# Altium footprint library 贴片按键.PcbLib: 1 footprints
Each footprint in its own frame and in the unit in brackets; x right, y up, seen from the top. Pads: shape width x height; smd on the part's side, far side on the other; paste and mask are expansions set on the pad; w line width, h text height; cw(c..) or ccw(c..) is an arc to the next point about the centre after c.
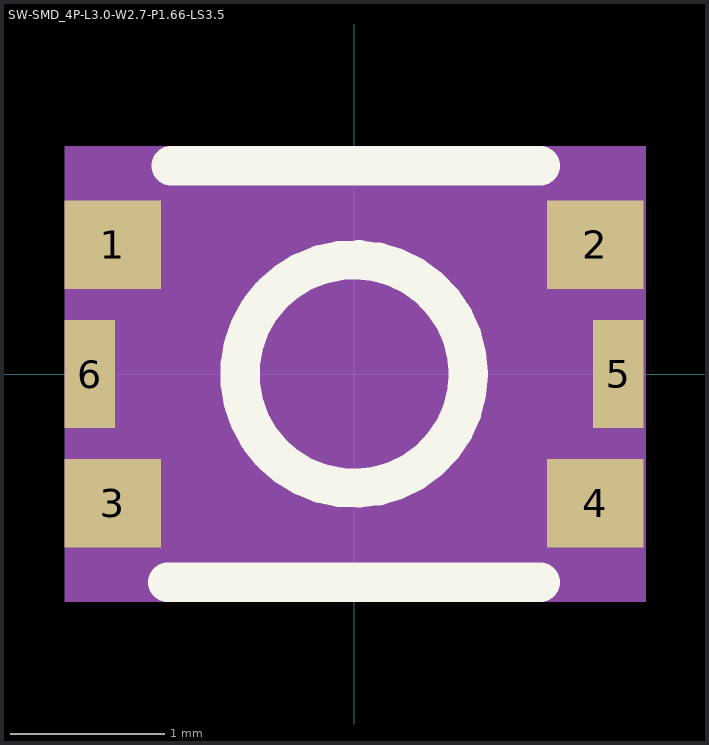
[diagram p0: the footprint, top view; thin cyan lines are the x and y axes]

## SW-SMD_4P-L3.0-W2.7-P1.66-LS3.5 [mm]
pads (6):
  rect 0.625x0.575 smd: 1(-1.562,0.837) 2(1.562,0.837) 3(-1.562,-0.837) 4(1.562,-0.837)
  rect 0.325x0.7 smd: 5(1.712,0) 6(-1.712,0)
Top Overlay:
  circle w0.254: c0,0 r0.741
  lines w0.254: -1.207,-1.35 1.207,-1.35 ; -1.185,1.35 1.207,1.35
Mechanical 4:
  region: -1.875,1.477 1.892,1.477 1.892,-1.477 -1.875,-1.477
Mechanical 5:
  region: -1.875,1.125 -1.25,1.125 -1.25,0.55 -1.875,0.55
  region: 1.25,1.125 1.875,1.125 1.875,0.55 1.25,0.55
  region: -1.875,-0.55 -1.25,-0.55 -1.25,-1.125 -1.875,-1.125
  region: 1.25,-0.55 1.875,-0.55 1.875,-1.125 1.25,-1.125
  region: 1.55,0.35 1.875,0.35 1.875,-0.35 1.55,-0.35
  region: -1.875,0.35 -1.55,0.35 -1.55,-0.35 -1.875,-0.35